# EAGLE library part TEXAS_INSTRUMENTS-BUCK_CONVERTER-TPS62827DMQR (library Module_Regulators)
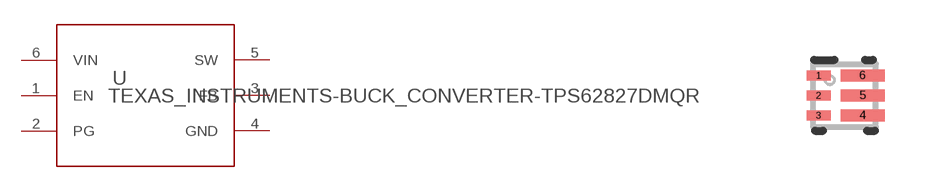
[diagram p22: symbol with the pads of TEXAS_INSTRUMENTS-BUCK_CONVERTER-TPS62827DMQR; footprint TEXAS_INSTRUMENTS-BUCK_CONVERTER-TPS62827DMQR]

Designator prefix U

## TEXAS_INSTRUMENTS-BUCK_CONVERTER-TPS62827DMQR (MANUFACTURER: Texas Instruments; PARTNUMBER: TPS62827DMQR; REFDES: RefDes; TYPE: TYPE; VALUE: Value)  [TEXAS_INSTRUMENTS-BUCK_CONVERTER-TPS62827DMQR]
1  EN  in
2  PG  oc
3  FB  in
4  GND  pwr
5  SW  pwr
6  VIN  pwr

## Footprint TEXAS_INSTRUMENTS-BUCK_CONVERTER-TPS62827DMQR (pad centres in mm)
smd 0.6 x 0.25: 1 -0.65,0.5; 2 -0.65,0; 3 -0.65,-0.5
smd 1.1 x 0.3: 4 0.45,-0.5; 5 0.45,0; 6 0.45,0.5